# Altium schematic symbol library Logic Shift_Registers.SchLib: 1 symbol
Pins are listed as number, name and electrical type; pins without a type are passive.

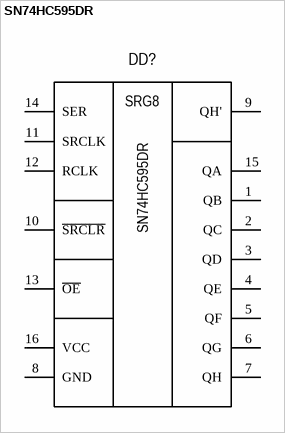
[diagram p0: symbol SN74HC595DR]

## SN74HC595DR
designator DD?
SHREG 8Ch SOIC-16; Manufacturer: Texas Instruments; Group: Digital; Voltage supply: 2V - 6V; Bits: 8; Current output: 35mA; Current output total: 70mA; Clock frequency: 25MHz; Component: Logic Shift Registers; Package: SOIC-16; Part name: SN74HC595DR; Operating temperature: -40°C +85°C; Height: 1.75mm; Dimension: 10.00mm x 6.20mm; Mounting type: Surface mount
footprint SOIC-16 (3.90mm)
pins: 1 QB, 2 QC, 3 QD, 4 QE, 5 QF, 6 QG, 7 QH, 8 GND, 9 QH', 10 ~{SRCLR}, 11 SRCLK, 12 RCLK, 13 ~{OE}, 14 SER, 15 QA, 16 VCC
text: SRG8